# EAGLE library part TXS0102 (library Explore Labs EAGLE Library)
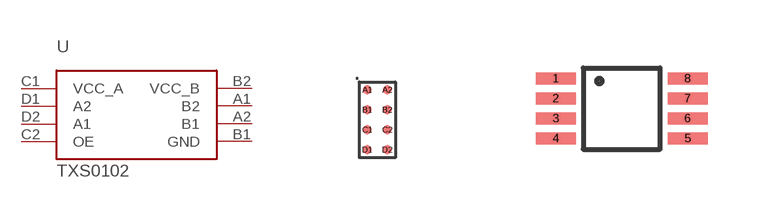
[diagram p18: symbol with the pads of YZP-XBGA; footprints YZP-XBGA, VSSOP8]

Designator prefix -

## TXS0102-YZP  [YZP-XBGA]
A1  B2
A2  B1
B1  GND
B2  VCC_B
C1  VCC_A
C2  OE
D1  A2
D2  A1

## TXS0102-DCU  [VSSOP8]
1  B2
2  GND
3  VCC_A
4  A2
5  A1
6  OE
7  VCC_B
8  B1

## Footprint YZP-XBGA (pad centres in mm)
smd 0.23 x 0.23: A1 -0.25,0.75; A2 0.25,0.75; B1 -0.25,0.25; B2 0.25,0.25; C1 -0.25,-0.25; C2 0.25,-0.25; D1 -0.25,-0.75; D2 0.25,-0.75

## Footprint VSSOP8 (pad centres in mm)
smd 1 x 0.3: 1 -1.65,0.75; 2 -1.65,0.25; 3 -1.65,-0.25; 4 -1.65,-0.75; 5 1.65,-0.75; 6 1.65,-0.25; 7 1.65,0.25; 8 1.65,0.75